# EAGLE library part TSL2572 (library ERIC)
TAOS TSL2572 LIGHT-TO-DIGITAL CONVERTER http://media.digikey.com/pdf/Data%20Sheets/Austriamicrosystems%20PDFs/TSL2572.pdf TSL25723FNCT-ND
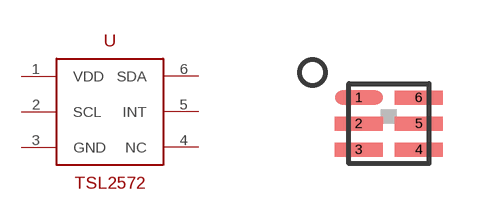
[diagram p36: symbol with the pads of SON-6; footprint SON-6]

Designator prefix -

## TSL2572  [SON-6]
1  VDD  pwr
2  SCL  in
3  GND  pwr
4  NC  nc
5  INT  out
6  SDA

## Footprint SON-6 (pad centres in mm)
Based upon TAOS TSL2572 LIGHT-TO-DIGITAL CONVERTER datasheet http://media.digikey.com/pdf/Data%20Sheets/Austriamicrosystems%20PDFs/TSL2572.pdf
smd 1.2 x 0.35: 1 -0.75,0.65; 2 -0.75,0; 3 -0.75,-0.65; 4 0.75,-0.65; 5 0.75,0; 6 0.75,0.65